# Altium footprint library CONN 5X2 Vert Ribbon.PcbLib: 1 footprints
Each footprint in its own frame and in the unit in brackets; x right, y up, seen from the top. Pads: shape width x height; smd on the part's side, far side on the other; paste and mask are expansions set on the pad; w line width, h text height; cw(c..) or ccw(c..) is an arc to the next point about the centre after c.
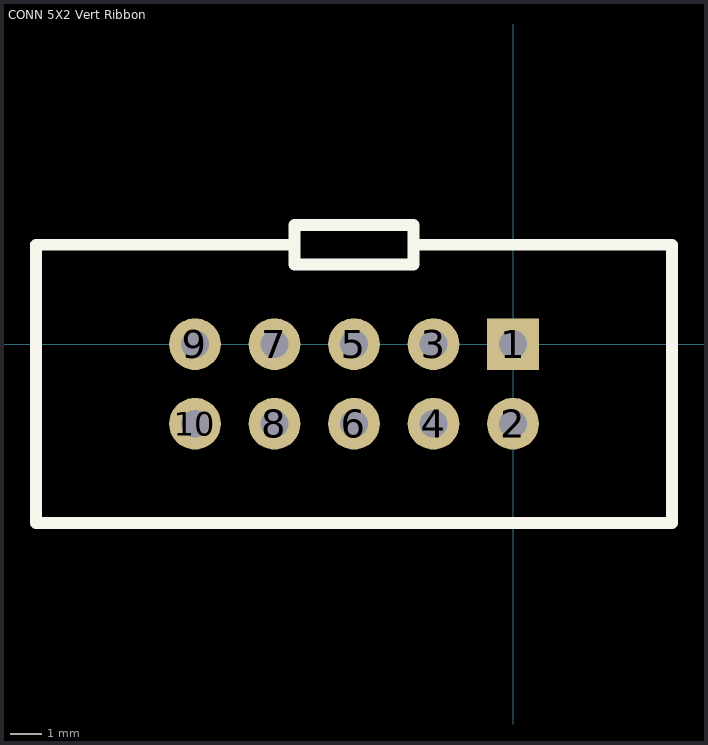
[diagram p0: the footprint, top view; thin cyan lines are the x and y axes]

## CONN 5X2 Vert Ribbon [mil] "Ribbon Connector"
pads (10):
  rect 65x65 hole 35: 1(0,0)
  round 65 hole 35: 2(0,-100) 3(-100,0) 4(-100,-100) 5(-200,0) 6(-200,-100) 7(-300,0) 8(-300,-100) 9(-400,0) 10(-400,-100)
Top Overlay:
  lines w10: 100,-225 200,-225
  lines w15: -275,125 -600,125 -600,-225 200,-225 200,125 -125,125 ; -275,100 -125,100 -125,150 -275,150 -275,100